# EAGLE library part 208659-1040 (library 208659-1040)
Headers & Wire Housings iGrid 2mm Plg TH Hdr RA GF Nat 10ckt Source: Datasheet <https://www.molex.com/pdm_docs/sd/2086591040_sd.pdf>
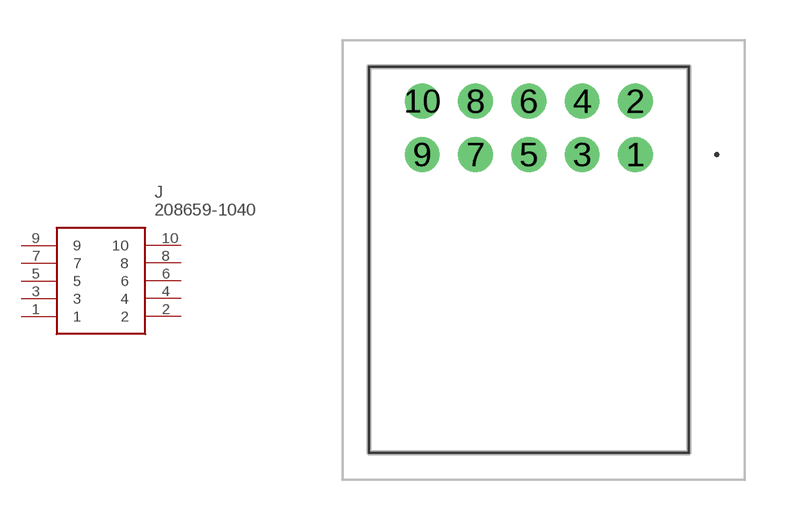
[diagram p0: symbol with the pads of 2086591040; footprint 2086591040]

Designator prefix J

## 208659-1040 (Description: Headers & Wire Housings iGrid 2mm Plg TH Hdr RA GF Nat 10ckt; Height: 8.5mm; Manufacturer_Name: Molex; Manufacturer_Part_Number: 208659-1040; Mouser_Part_Number: 538-208659-1040; Mouser_Price-Stock: https://www.mouser.co.uk/ProductDetail/Molex/208659-1040?qs=GedFDFLaBXGObOq8umML5g%3D%3D)  [2086591040]
1  1
2  2
3  3
4  4
5  5
6  6
7  7
8  8
9  9
10  10

## Footprint 2086591040 (pad centres in mm)
208659-1040-2
drill 0.8 pad 1.3: 1 0,0; 2 0,2; 3 -2,0; 4 -2,2; 5 -4,0; 6 -4,2; 7 -6,0; 8 -6,2; 9 -8,0; 10 -8,2